# Altium footprint library QUTMS_TrimmerLibrary.PcbLib: 1 footprints
Each footprint in its own frame and in the unit in brackets; x right, y up, seen from the top. Pads: shape width x height; smd on the part's side, far side on the other; paste and mask are expansions set on the pad; w line width, h text height; cw(c..) or ccw(c..) is an arc to the next point about the centre after c.
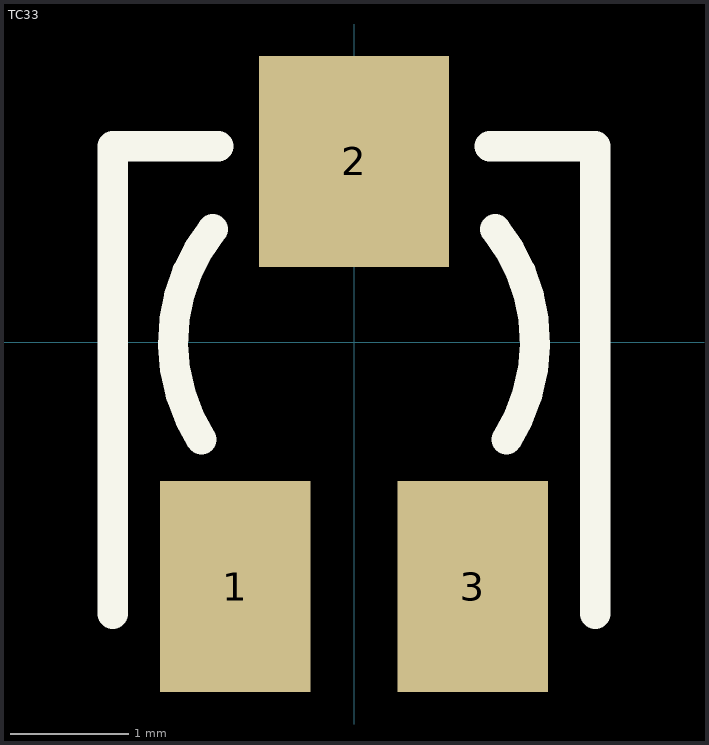
[diagram p0: the footprint, top view; thin cyan lines are the x and y axes]

## TC33 [mil] "3 mm SMD Trimpot® Trimming Potentiometer"
pads (3):
  rect 50x70 smd: 1(-39.37,-81) 3(39.37,-81)
  rect 63x70 smd: 2(0,60)
Top Overlay:
  lines w10: -80,-90 -80,65 -45,65 ; -50.62,-32.21 cw(c0,0) -46.85,37.48 ; 45,65 80,65 80,-90 ; 46.85,37.48 cw(c0,0) 50.62,-32.21
3D body "TC-33X-2.stp": height 45.69, standoff 0.3, extent -70.86,-90.29 70.87,65.72